# EAGLE library part L6230 (library GimbalStabilizer)
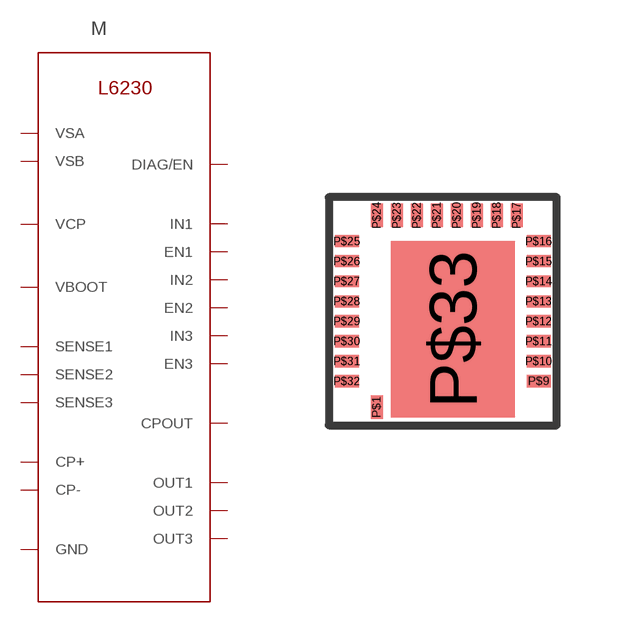
[diagram p1: symbol with the pads of VFQFN32; footprint VFQFN32]

Designator prefix M

## L6230QTR  [VFQFN32]
P$1  GND
P$9  DIAG/EN
P$11  CPOUT
P$12  SENSE3
P$13  IN2
P$14  EN2
P$15  CP-
P$16  EN3
P$17  VBOOT
P$19  OUT3
P$20  VSB
P$21  GND
P$22  VSA
P$23  OUT2
P$24  VCP
P$25  SENSE2
P$26  IN1
P$27  EN1
P$28  IN3
P$29  SENSE1
P$30  CP+
P$31  OUT1
P$33  GND

## Footprint VFQFN32 (pad centres in mm)
smd 0.3 x 0.6: P$1 0.6,-2.15; P$17 4.1,2.65; P$18 3.6,2.65; P$19 3.1,2.65; P$20 2.6,2.65; P$21 2.1,2.65; P$22 1.6,2.65; P$23 1.1,2.65; P$24 0.6,2.65
smd 0.6 x 0.3: P$9 4.65,-1.5; P$10 4.65,-1; P$11 4.65,-0.5; P$12 4.65,0; P$13 4.65,0.5; P$14 4.65,1; P$15 4.65,1.5; P$16 4.65,2; P$25 -0.15,2; P$26 -0.15,1.5; P$27 -0.15,1; P$28 -0.15,0.5; P$29 -0.15,0; P$30 -0.15,-0.5; P$31 -0.15,-1; P$32 -0.15,-1.5
smd 3.1 x 4.4: P$33 2.5,-0.2